# Altium footprint library MY.PcbLib: 177 footprints (part 6 of 12)
Each footprint in its own frame and in the unit in brackets; x right, y up, seen from the top. Pads: shape width x height; smd on the part's side, far side on the other; paste and mask are expansions set on the pad; w line width, h text height; cw(c..) or ccw(c..) is an arc to the next point about the centre after c.
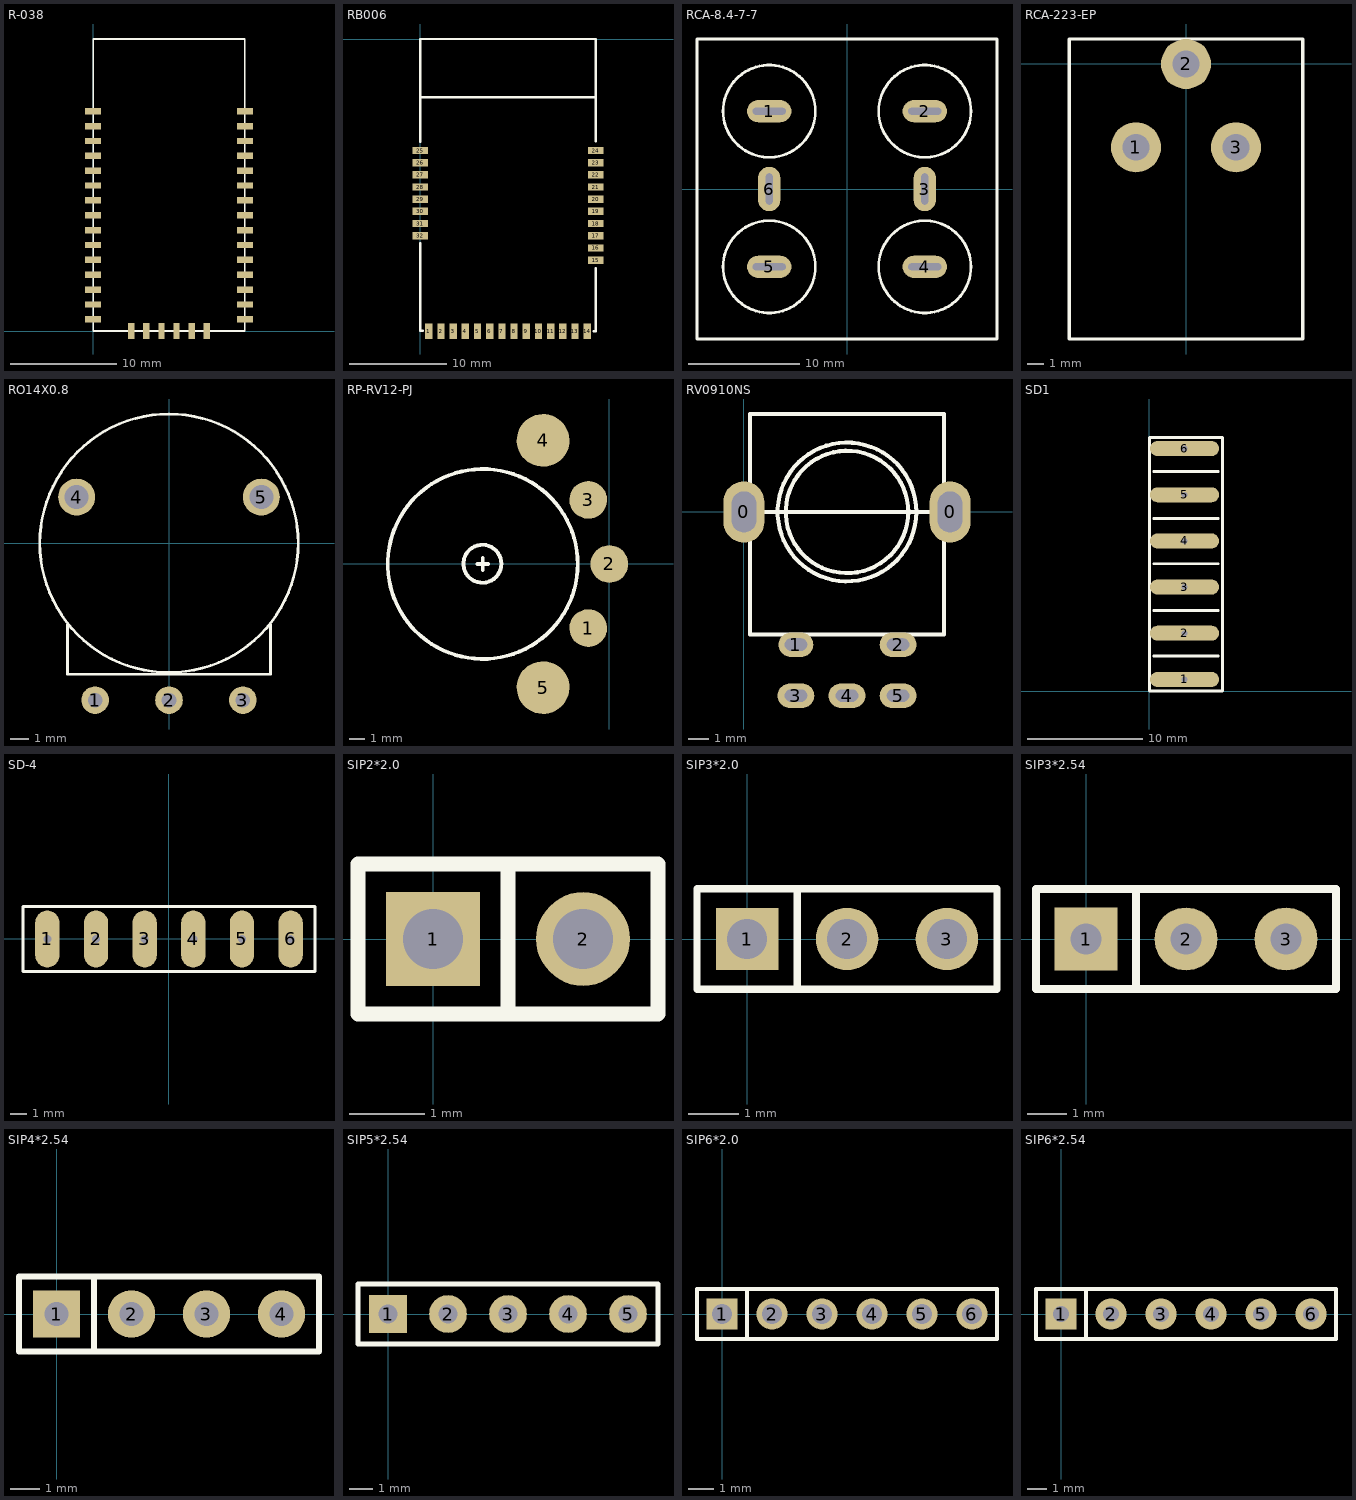
[diagram p5: the footprints below, top view; thin cyan lines are the x and y axes]

## R-038 [mm]
pads (36):
  rect 1.5x0.6 smd: 1(0,20.7) 2(0,19.3) 3(0,17.9) 4(0,16.5) 5(0,15.1) 6(0,13.7) 7(0,12.3) 8(0,10.9) 9(0,9.5) 10(0,8.1) 11(0,6.7) 12(0,5.3) 13(0,3.9) 14(0,2.5) 15(0,1.1) 22(14.3,1.1) 23(14.3,2.5) 24(14.3,3.9) 25(14.3,5.3) 26(14.3,6.7) 27(14.3,8.1) 28(14.3,9.5) 29(14.3,10.9) 30(14.3,12.3) 31(14.3,13.7) 32(14.3,15.1) 33(14.3,16.5) 34(14.3,17.9) 35(14.3,19.3) 36(14.3,20.7)
  rect 0.6x1.5 smd: 16(3.6,0) 17(5.02,0) 18(6.44,0) 19(7.86,0) 20(9.28,0) 21(10.7,0)
Top Overlay:
  lines w0.15: 0,0 14.3,0 14.3,27.5 0,27.5 0,0

## RB006 [mm]
pads (32):
  rect 0.75x1.6 smd: 1(0.875,-30) 2(2.125,-30) 3(3.375,-30) 4(4.625,-30) 5(5.875,-30) 6(7.125,-30) 7(8.375,-30) 8(9.625,-30) 9(10.875,-30) 10(12.125,-30) 11(13.375,-30) 12(14.625,-30) 13(15.875,-30) 14(17.125,-30)
  rect 1.6x0.75 smd: 15(18,-22.7) 16(18,-21.45) 17(18,-20.2) 18(18,-18.95) 19(18,-17.7) 20(18,-16.45) 21(18,-15.2) 22(18,-13.95) 23(18,-12.7) 24(18,-11.45) 25(0,-11.45) 26(0,-12.7) 27(0,-13.95) 28(0,-15.2) 29(0,-16.45) 30(0,-17.7) 31(0,-18.95) 32(0,-20.2)
Top Overlay:
  lines w0.254: 0,-20.955 0,-29.972 0.254,-29.972 ; 0,-10.541 0,0 18,0 18,-10.507 ; 0,-6 18,-6 ; 17.808,-30 18,-30 18,-23.529

## RCA-8.4-7-7 [mm]
pads (6):
  oval 4x2 hole 0.6 slot 3 at 0 deg: 1(-7,7) 2(7,7) 4(7,-7) 5(-7,-7)
  oval 2x4 hole 0.6 slot 2.8 at 90 deg: 3(7,0) 6(-7,0)
Top Overlay:
  circle w0.254: c7,-7 r4.15
  circle w0.254: c-7,-7 r4.15
  circle w0.254: c7,7 r4.15
  circle w0.254: c-7,7 r4.15
  lines w0.254: -13.5,-13.5 -13.5,13.5 13.5,13.5 13.5,-13.5 -13.5,-13.5

## RCA-223-EP [mm]
pads (3):
  round 3 hole 1.6: 1(-3,-5) 2(0,0) 3(3,-5)
Top Overlay:
  lines w0.2: -7,-16.5 -7,1.5 7,1.5 7,-16.5 -7,-16.5

## RO14X0.8 [mm]
pads (5):
  round 1.5 hole 0.8 unplated: 1(-4,-8.5) 2(0,-8.5) 3(4,-8.5)
  round 2 hole 1.3: 4(-5,2.5) 5(5,2.5)
Top Overlay:
  circle w0.15: c0,0 r7
  lines w0.15: -5.5,-4.4 -5.5,-7.1 5.5,-7.1 5.5,-4.4

## RP-RV12-PJ [mm]
pads (5):
  round 2.5 all layers, no hole: 1(-1.4,-4.25) 2(0,0) 3(-1.4,4.25)
  round 3.5 all layers, no hole: 4(-4.4,8.2) 5(-4.4,-8.2)
Top Overlay:
  circle w0.254: c-8.425,0.014 r1.259
  circle w0.254: c-8.4,0 r6.3
  lines w0.254: -8.758,0 -8.046,0 ; -8.402,-0.406 -8.402,0.406

## RV0910NS [mm]
pads (7):
  oval 2x3 hole 1.2 slot 2 at 90 deg: 0(0,0) 0(10.1,0)
  oval 1.7x1.2 hole 0.6 slot 1.1 at 0 deg: 1(2.55,-6.5)
  oval 1.8x1.2 hole 0.6 slot 1.1 at 0 deg: 2(7.55,-6.5) 3(2.55,-9) 4(5.05,-9) 5(7.55,-9)
Top Overlay:
  circle w0.2: c5.05,0 r3.4
  circle w0.2: c5.05,0 r3
  lines w0.2: 0.3,0 9.8,0 ; 0.3,4.8 0.3,-6 9.8,-6 9.8,4.8 0.35,4.8

## SD1 [mm]
pads (6):
  oval 6x1.3 / inner round 1.3 / far side oval 6x1.3 hole 0.5: 1(3.048,1.025) 2(3.048,5.025) 3(3.048,9.025) 4(3.048,13.025) 5(3.048,17.025) 6(3.048,21.025)
Top Overlay:
  lines w0.254: 0.381,3.048 5.969,3.048 ; 0.381,6.985 5.969,6.985 ; 0.381,11.049 5.969,11.049 ; 0.381,14.986 5.969,14.986 ; 0.381,19.05 5.969,19.05 ; 0,0 6.347,0 6.347,22 0,22 0,0

## SD-4 [mm]
pads (6):
  oval 1.5x3.5 hole 0.5: 1(-7.5,0) 2(-4.5,0) 3(-1.5,0) 4(1.5,0) 5(4.5,0) 6(7.5,0)
Top Overlay:
  lines w0.2: -9,-2 9,-2 9,2 -9,2 -9,-2

## SIP2*2.0 [mm]
pads (2):
  rect 1.25x1.25 hole 0.8: 1(0,0)
  round 1.25 hole 0.8: 2(2,0)
Top Overlay:
  lines w0.2: 1,-1 1,1 ; -1,-1 3,-1 3,1 -1,1 -1,-1

## SIP3*2.0 [mm]
pads (3):
  rect 1.25x1.25 hole 0.8: 1(0,0)
  round 1.25 hole 0.8: 2(2,0) 3(4,0)
Top Overlay:
  lines w0.15: 1,-1 1,1 ; -1,-1 5,-1 5,1 -1,1 -1,-1

## SIP3*2.54 [mm]
pads (3):
  rect 1.6x1.6 hole 0.8: 1(0,0)
  round 1.6 hole 0.8: 2(2.54,0) 3(5.08,0)
Top Overlay:
  lines w0.2: 1.27,-1.27 1.27,1.27 ; -1.27,-1.27 6.35,-1.27 6.35,1.27 -1.27,1.27 -1.27,-1.27

## SIP4*2.54 [mm]
pads (4):
  rect 1.6x1.6 hole 0.8: 1(0,0)
  round 1.6 hole 0.8: 2(2.54,0) 3(5.08,0) 4(7.62,0)
Top Overlay:
  lines w0.2: 1.27,-1.27 1.27,1.27 ; -1.27,-1.27 -1.27,1.27 8.89,1.27 8.89,-1.27 -1.27,-1.27

## SIP5*2.54 [mm]
pads (5):
  rect 1.6x1.6 hole 0.8: 1(0,0)
  round 1.6 hole 0.8: 2(2.54,0) 3(5.08,0) 4(7.62,0) 5(10.16,0)
Top Overlay:
  lines w0.2: -1.27,-1.27 -1.27,1.27 11.43,1.27 11.43,-1.27 -1.27,-1.27

## SIP6*2.0 [mm]
pads (6):
  rect 1.25x1.25 hole 0.8: 1(0,0)
  round 1.25 hole 0.8: 2(2,0) 3(4,0) 4(6,0) 5(8,0) 6(10,0)
Top Overlay:
  lines w0.15: 1,-1 1,1 ; -1,-1 11,-1 11,1 -1,1 -1,-1

## SIP6*2.54 [mm]
pads (6):
  rect 1.6x1.6 hole 0.8: 1(0,0)
  round 1.6 hole 0.8: 2(2.54,0) 3(5.08,0) 4(7.62,0) 5(10.16,0) 6(12.7,0)
Top Overlay:
  lines w0.2: 1.27,-1.27 1.27,1.27 ; -1.27,-1.27 -1.27,1.27 13.97,1.27 13.97,-1.27 -1.27,-1.27